# Altium schematic symbol library ERJ-8ENF2320V.SchLib: 1 symbol
Pins are listed as number, name and electrical type; pins without a type are passive.

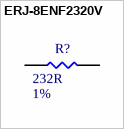
[diagram p0: symbol ERJ-8ENF2320V]

## ERJ-8ENF2320V
designator R?  Tolerance: 1%  Resistance: 232R  (hidden comment: ERJ-8ENF2320V)
Thick Film Resistors - SMD 1206 232ohms 1% AEC-Q200; MFR: Panasonic; Power Rating: 1/4W; Qualifications: AEC-Q200; Footprint: RES1206; PN: ERJ-8ENF2320V; ComponentLink1Description: Datasheet; ComponentLink1URL: https://www.mouser.ca/datasheet/2/315/AOA0000C304-1149620.pdf; Package: 1206; Supplier 1: Digi-Key; Supplier Part Number 1: P232FCT-ND
footprint RES1206 (Generic 1206 PCB Footprint)
pins: 1, 2